# Altium integrated library diodes.IntLib: 16 symbols
Pins are listed as number, name and electrical type; pins without a type are passive.

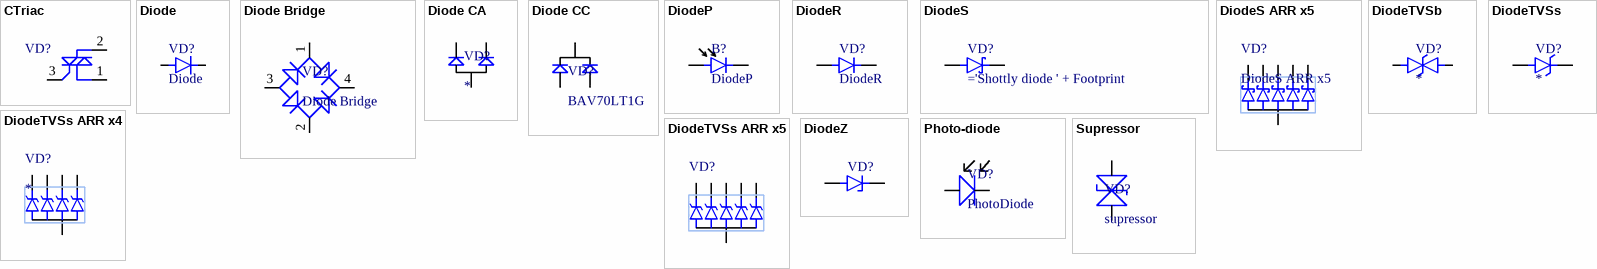
[diagram p0: symbols CTriac to Supressor]

## CTriac
designator VD?  (value not drawn)
Genric triac; Order: *; IsSMT: *; BuyLink1: *; LCSC Part #: *
footprint TO-220
pins: 1, 2, 3

## Diode
designator VD?
Semiconductor diode; IsSMT: NoSMT; Order: *; BuyLink1: *; LCSC Part #: *
footprint DO-41
footprint SOD-123
footprint SOD-80
pins: A, C

## Diode Bridge
designator VD?
IsSMT: NoSMT; Order: *; BuyLink1: *; LCSC Part #: *
pins: 1, 2, 3, 4

## Diode CA
designator VD?
Two common anode schottky diodes; Order: *; HelpURL: *; BuyLink1: *; LCSC Part #: *
footprint SOT23-3
pins: 1, 2, 3

## Diode CC
designator VD?, comment BAV70LT1G
Two Common-Cathode diodes; IsSMT: NoSMT; Order: BAV70LT1G; ComponentLink1Description: New link; ComponentLink1URL: *; BuyLink1: *; LCSC Part #: *
footprint SOT-23-3 (Footprint not found)
pins: 1, 2, 3

## DiodeP
designator B?
Diode Photo; Order: *; IsSMT: *; BuyLink1: *; LCSC Part #: *
pins: A Anode, C Cathode

## DiodeR
designator VD?
Diode Rectifier; Order: *; IsSMT: *; BuyLink1: *; LCSC Part #: *
footprint DO-41
footprint DO-214AA(SMB)
footprint DO-214AB(SMC)
footprint DO-214AC(SMA)
pins: A Anode, C Cathode

## DiodeS
designator VD?
Diode Shottky; IsSMT: NoSMT
footprint DO-41
footprint DO-214AC(SMA)
footprint DO-214AA(SMB)
footprint DO-214AB(SMC)
footprint SOD-523 (SODFL, 2-Leads, Body 0,80x1,60mm, IPC Medium Density)
footprint SOD-123 (SODFL, 2-Leads, Body 1,80x3,65mm, IPC Medium Density)
pins: A Anode, C Cathode

## DiodeS ARR x5
designator VD?
Diode Shottky ARR x5; IsSMT: NoSMT; Order: *; BuyLink1: *; LCSC Part #: *
pins: 1, 2, 3, 4, 5, 6

## DiodeTVSb
designator VD?
Diode TVS Bidirectional; IsSMT: NoSMT; Order: *; BuyLink1: *; LCSC Part #: *
footprint DO-214
footprint DO-41
footprint DO-214AB
pins: A Anode, C Anode

## DiodeTVSs
designator VD?
Diode TVS Single; IsSMT: NoSMT; Order: *; BuyLink1: *; LCSC Part #: *
footprint DO-41
footprint DO-214AC(SMA)
footprint DO-214AA(SMB)
footprint DO-214AB(SMC)
footprint SOD-323
footprint SOD-523N (SODFL, 2-Leads, Body 0,80x1,60mm, IPC Medium Density)
footprint SOD-523L (SODFL, 2-Leads, Body 0,80x1,60mm, IPC High Density)
footprint SOD-523M (SODFL, 2-Leads, Body 0,80x1,60mm, IPC Low Density)
pins: A Anode, C Cathode

## DiodeTVSs ARR x4
designator VD?
Diode TVS Single ARR x4; IsSMT: NoSMT; Order: *; BuyLink1: *; LCSC Part #: *
footprint SOT-353-5N (SOT23, 5-Leads, Body 2,00x2,10mm, Pitch 0,65mm, IPC Medium Density)
footprint SOT-353-5M (SOT23, 5-Leads, Body 2,00x2,10mm, Pitch 0,65mm, IPC Low Density)
footprint SOT-353-5L (SOT23, 5-Leads, Body 2,00x2,10mm, Pitch 0,65mm, IPC High Density)
pins: 1, 2, 3, 4, 5

## DiodeTVSs ARR x5
designator VD?  (value not drawn)
Diode TVS Single ARR x5; IsSMT: NoSMT; Order: *; BuyLink1: *; LCSC Part #: *
pins: 1, 2, 3, 4, 5, 6

## DiodeZ
designator VD?  (value not drawn)
Diode Zenner; IsSMT: NoSMT; Order: *; BuyLink1: *; LCSC Part #: *
footprint SOT23-3
footprint SOD-523L (SODFL, 2-Leads, Body 0,80x1,60mm, IPC High Density)
footprint SOD-523M (SODFL, 2-Leads, Body 0,80x1,60mm, IPC Low Density)
footprint SOD-523N (SODFL, 2-Leads, Body 0,80x1,60mm, IPC Medium Density)
pins: A Anode, C Cathode

## Photo-diode
designator VD?, comment PhotoDiode
Photo-Diode; IsSMT: NoSMT; Order: *; BuyLink1: *; LCSC Part #: *
pins: 1, 2

## Supressor
designator VD?, comment supressor
IsSMT: NoSMT; Order: *; BuyLink1: *; LCSC Part #: *
pins: 1, 2